# EAGLE library part MAX4382 (library sjg-opamp)
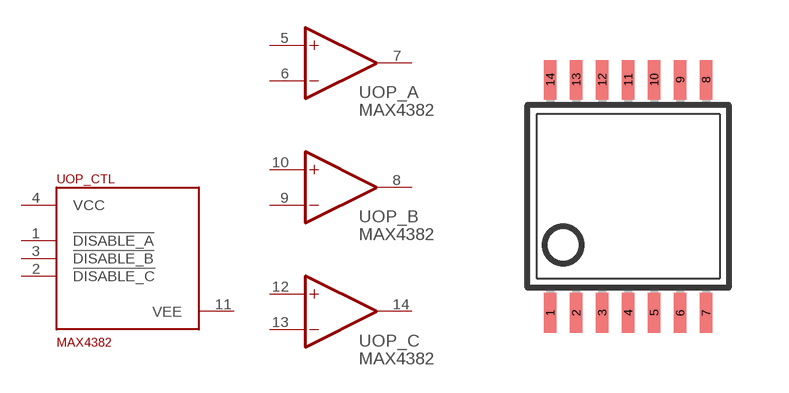
[diagram p4: symbol with the pads of TSSOP14; footprint TSSOP14]

Designator prefix -; gates OP_CTL=MAX4382 OP_A=OP OP_B=OP OP_C=OP

## MAX4382  [TSSOP14]
1  OP_CTL:!DISABLE_A!
2  OP_CTL:!DISABLE_C!
3  OP_CTL:!DISABLE_B!
4  OP_CTL:VCC
5  OP_A:+IN  in
6  OP_A:-IN  in
7  OP_A:OUT  out
8  OP_B:OUT  out
9  OP_B:-IN  in
10  OP_B:+IN  in
11  OP_CTL:VEE
12  OP_C:+IN  in
13  OP_C:-IN  in
14  OP_C:OUT  out

## Footprint TSSOP14 (pad centres in mm)
Thin Shrink Small Outline Plastic 14 MAX3223-MAX3243.pdf
smd 0.305 x 0.991: 1 -1.95,-2.918; 2 -1.3,-2.918; 3 -0.65,-2.918; 4 0,-2.918; 5 0.65,-2.918; 6 1.3,-2.918; 7 1.95,-2.918; 8 1.95,2.918; 9 1.3,2.918; 10 0.65,2.918; 11 0,2.918; 12 -0.65,2.918; 13 -1.3,2.918; 14 -1.95,2.918